# Altium footprint library Latrobe.PCBLIB: 50 footprints (part 3 of 4)
Each footprint in its own frame and in the unit in brackets; x right, y up, seen from the top. Pads: shape width x height; smd on the part's side, far side on the other; paste and mask are expansions set on the pad; w line width, h text height; cw(c..) or ccw(c..) is an arc to the next point about the centre after c.
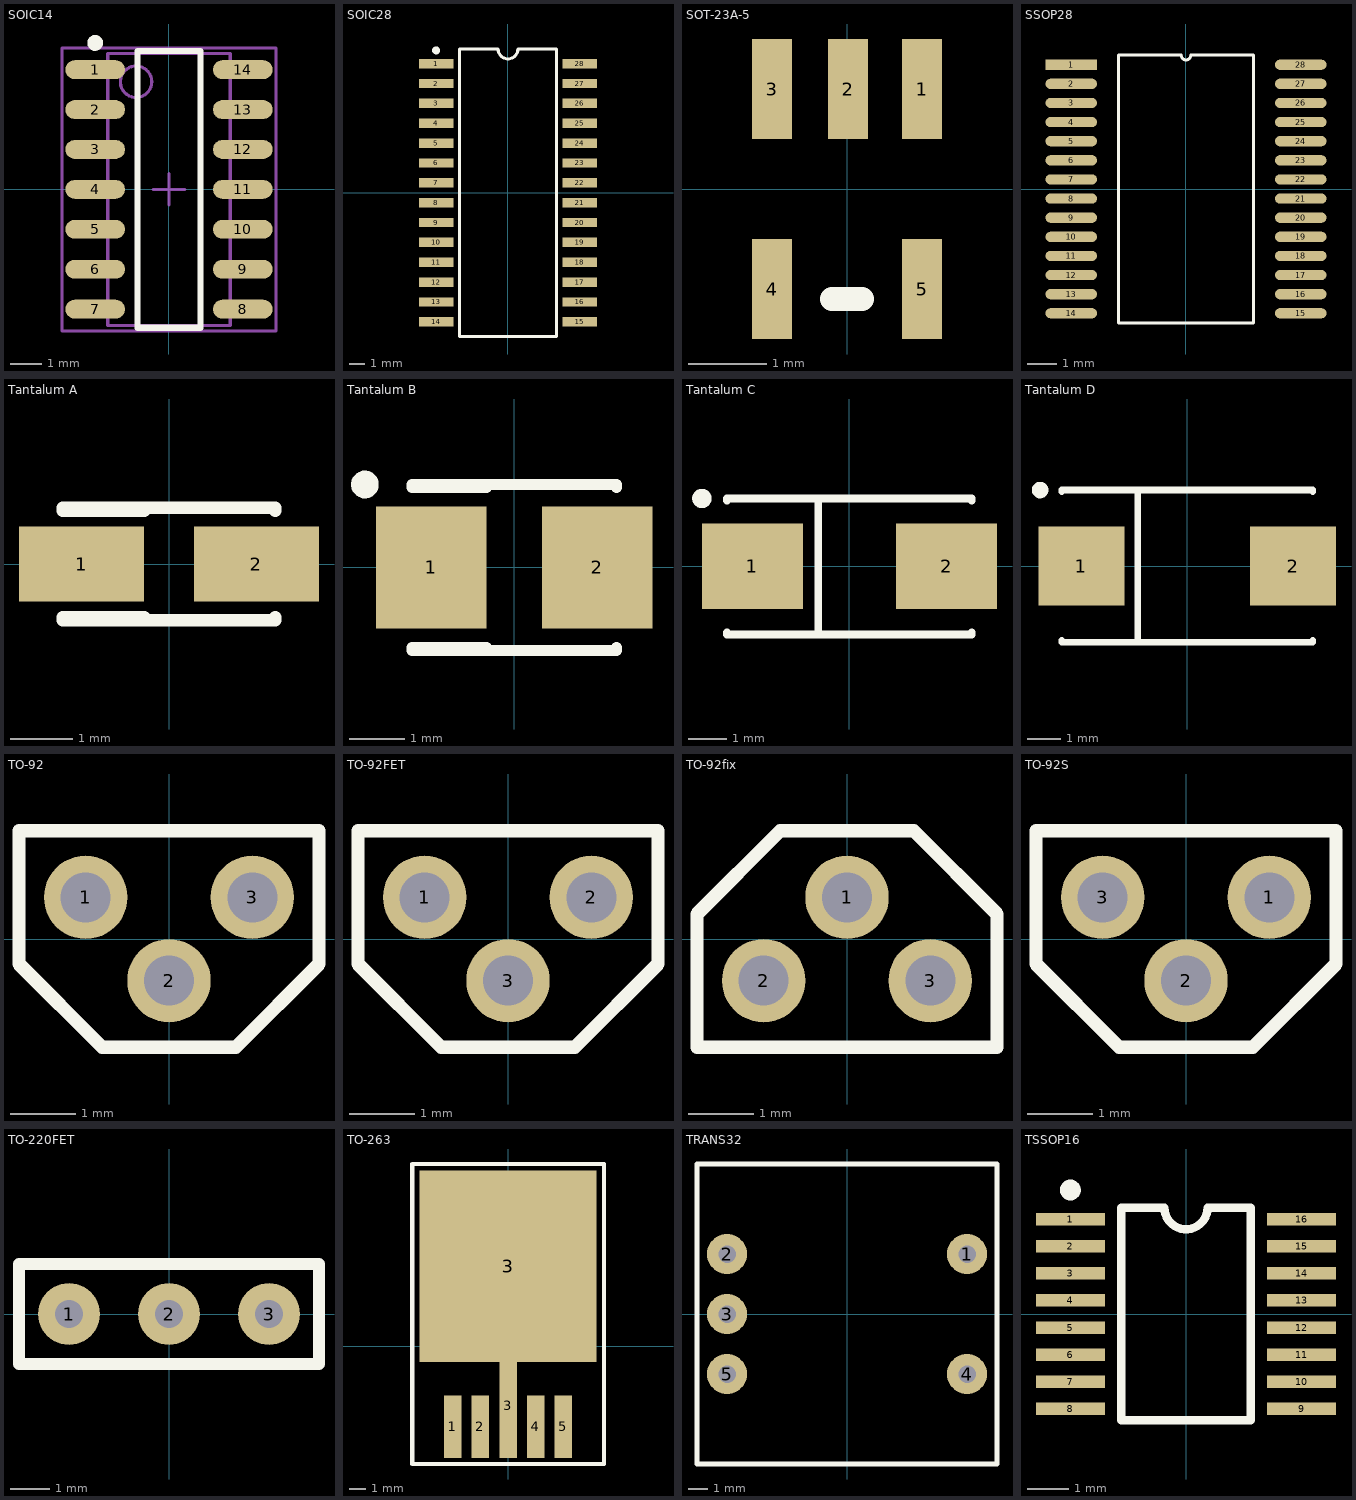
[diagram p2: the footprints below, top view; thin cyan lines are the x and y axes]

## SOIC14 [mm]
pads (14):
  oval 1.9x0.6 smd: 1(-2.35,3.81) 2(-2.35,2.54) 3(-2.35,1.27) 4(-2.35,0) 5(-2.35,-1.27) 6(-2.35,-2.54) 7(-2.35,-3.81) 8(2.35,-3.81) 9(2.35,-2.54) 10(2.35,-1.27) 11(2.35,0) 12(2.35,1.27) 13(2.35,2.54) 14(2.35,3.81)
TopOverlay:
  circle w0.25: c-2.35,4.66 r0.125
  lines w0.2: -1,-4.4 1,-4.4 1,4.4 -1,4.4 -1,-4.4
Mechanical13:
  circle w0.1: c-1.05,3.425 r0.5
  lines w0.1: -1.95,-4.325 1.95,-4.325 1.95,4.325 -1.95,4.325 -1.95,-4.325
Mechanical15:
  lines w0.1: -0.5,0 0.5,0 ; 0,-0.5 0,0.5 ; -3.4,-4.5 3.4,-4.5 3.4,4.5 -3.4,4.5 -3.4,-4.5
3D body: height 1.75, standoff 0, extent -1.95,-4.325 1.95,4.325

## SOIC28 [mm] "Small Outline; 28 Leads; Body Width 7.5 mm; Pitch 1.27 mm"
pads (28):
  rect 2.2x0.6 smd: 1(-4.6,8.255) 2(-4.6,6.985) 3(-4.6,5.715) 4(-4.6,4.445) 5(-4.6,3.175) 6(-4.6,1.905) 7(-4.6,0.635) 8(-4.6,-0.635) 9(-4.6,-1.905) 10(-4.6,-3.175) 11(-4.6,-4.445) 12(-4.6,-5.715) 13(-4.6,-6.985) 14(-4.6,-8.255) 15(4.6,-8.255) 16(4.6,-6.985) 17(4.6,-5.715) 18(4.6,-4.445) 19(4.6,-3.175) 20(4.6,-1.905) 21(4.6,-0.635) 22(4.6,0.635) 23(4.6,1.905) 24(4.6,3.175) 25(4.6,4.445) 26(4.6,5.715) 27(4.6,6.985) 28(4.6,8.255)
TopOverlay:
  circle w0.25: c-4.6,9.105 r0.125
  lines w0.2: -3.1,-9.2 -3.1,9.2 -0.635,9.2 ccw(c0,9.2) 0.635,9.2 3.1,9.2 3.1,-9.2 -3.1,-9.2

## SOT-23A-5 [mil]
pads (5):
  rect 20x50 smd: 1(37.5,50) 2(0.5,50) 3(-37.5,50) 4(-37.5,-50) 5(37.5,-50)
TopOverlay:
  lines w12: -7.5,-55 7.5,-55

## SSOP28 [mm]
pads (28):
  rect 1.75x0.35 smd: 1(-3.9,4.225)
  oval 1.75x0.35 smd: 2(-3.9,3.575) 3(-3.9,2.925) 4(-3.9,2.275) 5(-3.9,1.625) 6(-3.9,0.975) 7(-3.9,0.325) 8(-3.9,-0.325) 9(-3.9,-0.975) 10(-3.9,-1.625) 11(-3.9,-2.275) 12(-3.9,-2.925) 13(-3.9,-3.575) 14(-3.9,-4.225) 15(3.9,-4.225) 16(3.9,-3.575) 17(3.9,-2.925) 18(3.9,-2.275) 19(3.9,-1.625) 20(3.9,-0.975) 21(3.9,-0.325) 22(3.9,0.325) 23(3.9,0.975) 24(3.9,1.625) 25(3.9,2.275) 26(3.9,2.925) 27(3.9,3.575) 28(3.9,4.225)
TopOverlay:
  lines w0.1: -2.29,-4.55 -2.29,4.55 -0.162,4.55 ccw(c0,4.55) 0.163,4.55 2.29,4.55 2.29,-4.55 -2.29,-4.55

## Tantalum A [mm] "Capacitor, SM Tantalum; Body 3.2 x 1.6 mm (LxW typ)"
pads (2):
  rect 2x1.2 smd: 1(-1.4,0) 2(1.4,0)
TopOverlay:
  lines w0.2: -1.7,-0.9 1.7,-0.9 1.7,-0.85 ; -1.7,-0.85 -0.4,-0.85 ; -1.7,0.85 -0.4,0.85 ; -1.7,0.9 1.7,0.9 1.7,0.85

## Tantalum B [mm] "Capacitor, SM Tantalum; Body 3.5 x 2.8 mm (LxW typ)"
pads (2):
  rect 2x2.2 smd: 1(-1.5,0) 2(1.5,0)
TopOverlay:
  circle w0.25: c-2.7,1.5 r0.125
  lines w0.2: -1.85,-1.5 1.85,-1.5 1.85,-1.45 ; -1.85,-1.45 -0.5,-1.45 ; -1.85,1.45 -0.5,1.45 ; -1.85,1.5 1.85,1.5 1.85,1.45

## Tantalum C [mm] "Capacitor, SM Tantalum; Body 6.0 x 3.2 mm (LxW typ)"
pads (2):
  rect 2.6x2.2 smd: 1(-2.5,0) 2(2.5,0)
TopOverlay:
  circle w0.25: c-3.8,1.75 r0.125
  lines w0.2: -3.15,-1.7 -3.15,-1.75 3.15,-1.75 3.15,-1.7 ; -3.15,1.7 -3.15,1.75 3.15,1.75 3.15,1.7 ; -0.8,-1.75 -0.8,1.75

## Tantalum D [mm] "Capacitor, SM Tantalum; Body 7.3 x 4.3 mm (LxW typ)"
pads (2):
  rect 2.6x2.4 smd: 1(-3.2,0) 2(3.2,0)
TopOverlay:
  circle w0.25: c-4.45,2.3 r0.125
  lines w0.2: -3.8,-2.25 -3.8,-2.3 3.8,-2.3 3.8,-2.25 ; -3.8,2.25 -3.8,2.3 3.8,2.3 3.8,2.25 ; -1.5,-2.3 -1.5,2.3

## TO-92 [mil]
pads (3):
  round 50 hole 30: 1(-50,25) 2(0,-25) 3(50,25)
TopOverlay:
  lines w8: -90,-15 -40,-65 40,-65 90,-15 90,65 -90,65 -90,-15

## TO-92FET [mil]
pads (3):
  round 50 hole 30: 1(-50,25) 2(50,25) 3(0,-25)
TopOverlay:
  lines w8: -90,-15 -40,-65 40,-65 90,-15 90,65 -90,65 -90,-15

## TO-92fix [mil]
pads (3):
  round 50 hole 30: 1(0,25) 2(-50,-25) 3(50,-25)
TopOverlay:
  lines w8: -90,-65 90,-65 90,15 40,65 -40,65 -90,15 -90,-65

## TO-92S [mil]
pads (3):
  round 50 hole 30: 1(50,25) 2(0,-25) 3(-50,25)
TopOverlay:
  lines w8: -90,-15 -90,65 90,65 90,-15 40,-65 -40,-65 -90,-15

## TO-220FET [mil]
pads (3):
  round 62 hole 28: 1(-100,0) 2(0,0) 3(100,0)
TopOverlay:
  lines w12: -150,-50 150,-50 150,50 -150,50 -150,-50

## TO-263 [mil]
pads (6):
  rect 42x150 smd: 1(-133,-192.5) 2(-67,-192.5) 4(67,-192.5) 5(133,-192.5)
  rect 42x250 smd: 3(0,-142.5)
  rect 425x460 smd: 3(0,192.5)
TopOverlay:
  lines w10: -230,-282.5 230,-282.5 230,437.5 -230,437.5 -230,-282.5

## TRANS32 [mil]
pads (5):
  round 80 hole 35: 1(240,120) 2(-240,120) 3(-240,0) 4(240,-120) 5(-240,-120)
TopOverlay:
  lines w10: -300,-300 300,-300 300,300 -300,300 -300,-300

## TSSOP16 [mm]
pads (16):
  rect 1.65x0.3 smd: 1(-2.775,2.275) 2(-2.775,1.625) 3(-2.775,0.975) 4(-2.775,0.325) 5(-2.775,-0.325) 6(-2.775,-0.975) 7(-2.775,-1.625) 8(-2.775,-2.275) 9(2.775,-2.275) 10(2.775,-1.625) 11(2.775,-0.975) 12(2.775,-0.325) 13(2.775,0.325) 14(2.775,0.975) 15(2.775,1.625) 16(2.775,2.275)
TopOverlay:
  circle w0.25: c-2.775,2.975 r0.125
  lines w0.2: -1.55,-2.55 1.55,-2.55 1.55,2.55 0.517,2.55 cw(c0,2.55) -0.517,2.55 -1.55,2.55 -1.55,-2.55